# Altium integrated library HTLinn_Logic_CMOS.IntLib: 24 symbols
Pins are listed as number, name and electrical type; pins without a type are passive.

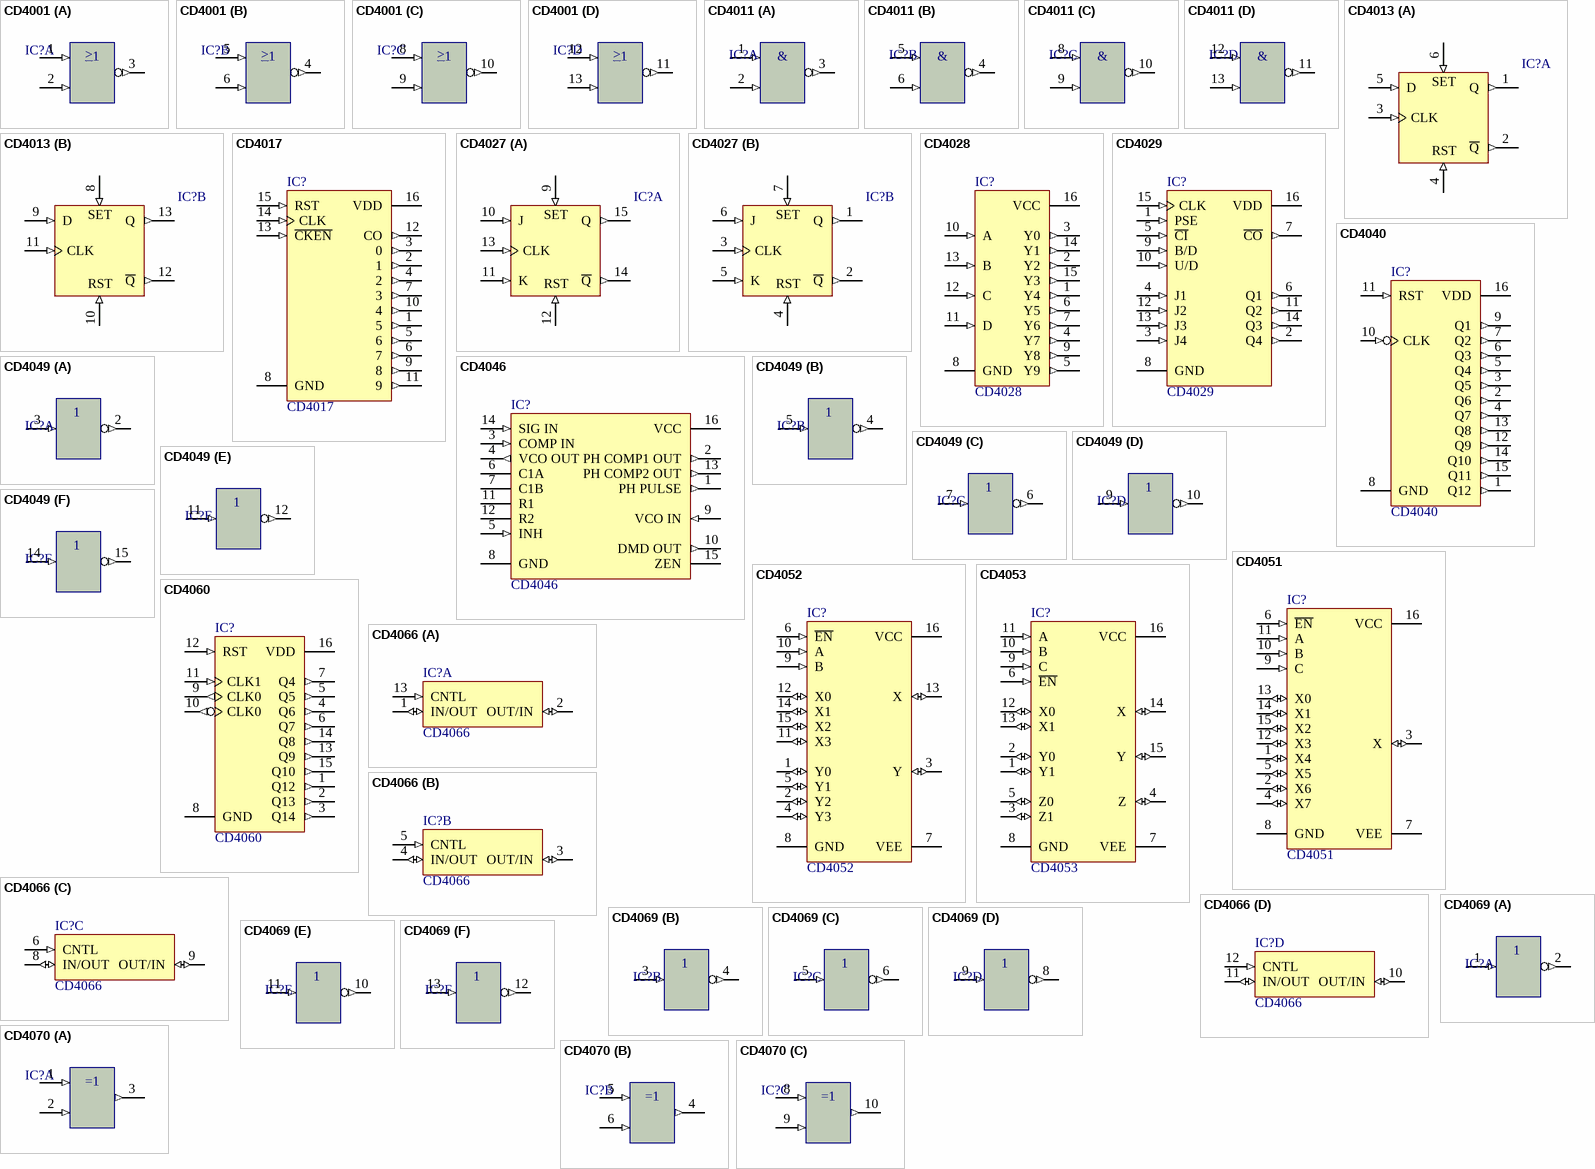
[diagram p0: symbols CD4001 to CD4070]

## CD4001
designator IC?  (value not drawn)
Quad 2-Input NOR Gate; Usage: only permitted for non-commercial purposes at HTL I Innsbruck; SimulationModellSource: ST Logic Gate; Published: 21-Feb-2011; LatestRevisionDate: 31-Oct-2012; Publisher: Michael Kupfner
simulation model CD4001 (SIMCODE)
footprint DIP14 (DIP; 14 Leads; Row Spacing 7.62 mm; Pitch 2.54 mm)
pins on every part: 7 GND (power) hidden to GND, 14 VDD (power) hidden to VDD
part A pins: 1 A (in), 2 B (in), 3 J (out)
part B pins: 4 K (out), 5 C (in), 6 D (in)
part C pins: 8 E (in), 9 F (in), 10 L (out)
part D pins: 11 M (out), 12 G (in), 13 H (in)
1 alternate drawing of the same symbol
part A text: >
part B text: >
part C text: >
part D text: >

## CD4011
designator IC?  (value not drawn)
Quad 2-Input NAND Gate; Usage: only permitted for non-commercial purposes at HTL I Innsbruck; SimulationModellSource: FSC Logic Gate; Published: 21-Feb-2011; LatestRevisionDate: 31-Oct-2012; Publisher: Michael Kupfner
footprint DIP14 (DIP; 14 Leads; Row Spacing 7.62 mm; Pitch 2.54 mm)
simulation model CD4011 (SIMCODE)
pins on every part: 7 GND (power) hidden to GND, 14 VDD (power) hidden to VDD
part A pins: 1 A (in), 2 B (in), 3 J (out)
part B pins: 4 K (out), 5 C (in), 6 D (in)
part C pins: 8 E (in), 9 F (in), 10 L (out)
part D pins: 11 M (out), 12 G (in), 13 H (in)
1 alternate drawing of the same symbol
part A text: &
part B text: &
part C text: &
part D text: &

## CD4013
designator IC?  (value not drawn)
Dual D-Type Flip-Flop; Usage: only permitted for non-commercial purposes at HTL I Innsbruck; SimulationModellSource: ST Logic Flip-Flop; Published: 21-Feb-2011; LatestRevisionDate: 31-Oct-2012
footprint DIP14 (DIP; 14 Leads; Row Spacing 7.62 mm; Pitch 2.54 mm)
simulation model CD4013 (SIMCODE)
pins on every part: 7 GND (power) hidden to GND, 14 VDD (power) hidden to VDD
part A pins: 1 Q (out), 2 ~{Q} (out), 3 CLK (in), 4 RST (in), 5 D (in), 6 S (in)
part B pins: 8 S (in), 9 D (in), 10 RST (in), 11 CLK (in), 12 ~{Q} (out), 13 Q (out)
part A text: SET
part B text: SET

## CD4017
designator IC?
Decade Counter with 10 Decoded Outputs; Usage: only permitted for non-commercial purposes at HTL I Innsbruck; SimulationModellSource: ST Logic Counter; Published: 21-Feb-2011; LatestRevisionDate: 31-Oct-2012
footprint DIP16 (DIP; 16 Leads; Row Spacing 7.62 mm; Pitch 2.54 mm)
simulation model CD4017 (SIMCODE)
pins: 1 5 (out), 2 1 (out), 3 0 (out), 4 2 (out), 5 6 (out), 6 7 (out), 7 3 (out), 8 GND (power), 9 8 (out), 10 4 (out), 11 9 (out), 12 CO (out), 13 ~{CKEN} (in), 14 CLK (in), 15 RST (in), 16 VDD (power)

## CD4027
designator IC?  (value not drawn)
Dual J-K Master-Slave Flip-Flop; SimulationModellSource: ST Logic Flip-Flop; Usage: only permitted for non-commercial purposes at HTL I Innsbruck; Published: 21-Feb-2011; LatestRevisionDate: 31-Oct-2012
footprint DIP16 (DIP; 16 Leads; Row Spacing 7.62 mm; Pitch 2.54 mm)
simulation model CD4027 (SIMCODE)
pins on every part: 8 GND (power) hidden to GND, 16 VDD (power) hidden to VDD
part A pins: 9 S (in), 10 J (in), 11 K (in), 12 RST (in), 13 CLK (in), 14 ~{Q} (out), 15 Q (out)
part B pins: 1 Q (out), 2 ~{Q} (out), 3 CLK (in), 4 RST (in), 5 K (in), 6 J (in), 7 S (in)
part A text: SET
part B text: SET

## CD4028
designator IC?
BCD-to-Decimal Decoder; Usage: only permitted for non-commercial purposes at HTL I Innsbruck; SimulationModellSource: ST Logic Decoder; Published: 21-Feb-2011; LatestRevisionDate: 31-Oct-2012
footprint DIP16 (DIP; 16 Leads; Row Spacing 7.62 mm; Pitch 2.54 mm)
simulation model CD4028 (SIMCODE)
pins: 1 Y4 (out), 2 Y2 (out), 3 Y0 (out), 4 Y7 (out), 5 Y9 (out), 6 Y5 (out), 7 Y6 (out), 8 GND (power), 9 Y8 (out), 10 A (in), 11 D (in), 12 C (in), 13 B (in), 14 Y1 (out), 15 Y3 (out), 16 VCC (power)

## CD4029
designator IC?
Presettable Up/Down Counter Binary or BCD Decade; SimulationModellSource: ST Logic Counter; Usage: only permitted for non-commercial purposes at HTL I Innsbruck; Published: 21-Feb-2011; LatestRevisionDate: 31-Oct-2012
footprint DIP16 (DIP; 16 Leads; Row Spacing 7.62 mm; Pitch 2.54 mm)
simulation model CD4029 (SIMCODE)
pins: 1 PSE (in), 2 Q4 (out), 3 J4 (in), 4 J1 (in), 5 ~{CI} (in), 6 Q1 (out), 7 ~{CO} (out), 8 GND (power), 9 B/D (in), 10 U/D (in), 11 Q2 (out), 12 J2 (in), 13 J3 (in), 14 Q3 (out), 15 CLK (in), 16 VDD (power)

## CD4040
designator IC?
12-Stage Ripple-Carry Binary Counter/Divider; Usage: only permitted for non-commercial purposes at HTL I Innsbruck; SimulationModellSource: ST Logic Counter; Published: 21-Feb-2011; LatestRevisionDate: 31-Oct-2012
footprint DIP16 (DIP; 16 Leads; Row Spacing 7.62 mm; Pitch 2.54 mm)
simulation model HCC4040 (SIMCODE)
pins: 1 Q12 (out), 2 Q6 (out), 3 Q5 (out), 4 Q7 (out), 5 Q4 (out), 6 Q3 (out), 7 Q2 (out), 8 GND (power), 9 Q1 (out), 10 CLK (in), 11 RST (in), 12 Q9 (out), 13 Q8 (out), 14 Q10 (out), 15 Q11 (out), 16 VDD (power)

## CD4046
designator IC?
CMOS Phase-Locked Loop; Usage: only permitted for non-commercial purposes at HTL I Innsbruck; SimulationModellSource: <no Sim-Modell found so far>; Published: 21-Feb-2011; LatestRevisionDate: 31-Oct-2012
footprint DIP16 (DIP; 16 Leads; Row Spacing 7.62 mm; Pitch 2.54 mm)
pins: 1 PH PULSE (out), 2 PH COMP1 OUT (out), 3 COMP IN (in), 4 VCO OUT (out), 5 INH (in), 6 C1A, 7 C1B, 8 GND (power), 9 VCO IN (in), 10 DMD OUT (out), 11 R1, 12 R2, 13 PH COMP2 OUT (out), 14 SIG IN (in), 15 ZEN, 16 VCC (power)

## CD4049
designator IC?  (value not drawn)
Hex Buffer/Converter; Usage: only permitted for non-commercial purposes at HTL I Innsbruck; SimulationModellSource: ST Logic Gate; Published: 21-Feb-2011; LatestRevisionDate: 31-Oct-2012; Publisher: Michael Kupfner
footprint DIP16 (DIP; 16 Leads; Row Spacing 7.62 mm; Pitch 2.54 mm)
simulation model CD4049 (SIMCODE)
pins on every part: 1 VCC (power) hidden to VCC, 8 GND (power) hidden to GND
part A pins: 2 G (out), 3 A (in)
part B pins: 4 H (out), 5 B (in)
part C pins: 6 I (out), 7 C (in)
part D pins: 9 D (in), 10 J (out)
part E pins: 11 E (in), 12 K (out)
part F pins: 14 F (in), 15 L (out)
1 alternate drawing of the same symbol

## CD4051
designator IC?
8-Channel Analog Multiplexer/Demultiplexer; Usage: only permitted for non-commercial purposes at HTL I Innsbruck; SimulationModellSource: <no Sim-Modell found so far>; Published: 21-Feb-2011; LatestRevisionDate: 31-Oct-2012
footprint DIP16 (DIP; 16 Leads; Row Spacing 7.62 mm; Pitch 2.54 mm)
pins: 1 X4 (io), 2 X6 (io), 3 X (io), 4 X7 (io), 5 X5 (io), 6 ~{EN} (in), 7 VEE (power), 8 GND (power), 9 C (in), 10 B (in), 11 A (in), 12 X3 (io), 13 X0 (io), 14 X1 (io), 15 X2 (io), 16 VCC (power)

## CD4052
designator IC?
Dual 4-Channel Analog Multiplexer/Demultiplexer; Usage: only permitted for non-commercial purposes at HTL I Innsbruck; SimulationModellSource: <no Sim-Modell found so far>; Published: 21-Feb-2011; LatestRevisionDate: 31-Oct-2012
footprint DIP16 (DIP; 16 Leads; Row Spacing 7.62 mm; Pitch 2.54 mm)
pins: 1 Y0 (io), 2 Y2 (io), 3 Y (io), 4 Y3 (io), 5 Y1 (io), 6 ~{EN} (in), 7 VEE (power), 8 GND (power), 9 B (in), 10 A (in), 11 X3 (io), 12 X0 (io), 13 X (io), 14 X1 (io), 15 X2 (io), 16 VCC (power)

## CD4053
designator IC?
Triple 2-Channnel Analog Multiplexer/Demutiplexer; Usage: only permitted for non-commercial purposes at HTL I Innsbruck; SimulationModellSource: <no Sim-Modell found so far>; Published: 21-Feb-2011; LatestRevisionDate: 31-Oct-2012
footprint DIP16 (DIP; 16 Leads; Row Spacing 7.62 mm; Pitch 2.54 mm)
pins: 1 Y1 (io), 2 Y0 (io), 3 Z1 (io), 4 Z (io), 5 Z0 (io), 6 ~{EN} (in), 7 VEE (power), 8 GND (power), 9 C (in), 10 B (in), 11 A (in), 12 X0 (io), 13 X1 (io), 14 X (io), 15 Y (io), 16 VCC (power)

## CD4060
designator IC?
14-Stage Ripple Carry Binary Counter/Divider and Oscillator; Usage: only permitted for non-commercial purposes at HTL I Innsbruck; SimulationModellSource: <no Sim-Modell found so far>; Published: 21-Feb-2011; LatestRevisionDate: 31-Oct-2012
footprint DIP16 (DIP; 16 Leads; Row Spacing 7.62 mm; Pitch 2.54 mm)
pins: 1 Q12 (out), 2 Q13 (out), 3 Q14 (out), 4 Q6 (out), 5 Q5 (out), 6 Q7 (out), 7 Q4 (out), 8 GND (power), 9 CLK0 (out), 10 CLK0 (out), 11 CLK1 (in), 12 RST (in), 13 Q9 (out), 14 Q8 (out), 15 Q10 (out), 16 VDD (power)

## CD4066
designator IC?
Quad Bilateral Switch; Usage: only permitted for non-commercial purposes at HTL I Innsbruck; SimulationModellSource: <no Sim-Modell found so far>; Published: 21-Feb-2011; LatestRevisionDate: 31-Oct-2012
footprint DIP14 (DIP; 14 Leads; Row Spacing 7.62 mm; Pitch 2.54 mm)
pins on every part: 7 GND (power) hidden to GND, 14 VDD (power) hidden to VDD
part A pins: 1 IN/OUT (io), 2 OUT/IN (io), 13 CNTL (in)
part B pins: 3 OUT/IN (io), 4 IN/OUT (io), 5 CNTL (in)
part C pins: 6 CNTL (in), 8 IN/OUT (io), 9 OUT/IN (io)
part D pins: 10 OUT/IN (io), 11 IN/OUT (io), 12 CNTL (in)

## CD4069
designator IC?  (value not drawn)
Hex Inverter; Usage: only permitted for non-commercial purposes at HTL I Innsbruck; SimulationModellSource: ST Logic Gate; Published: 21-Feb-2011; LatestRevisionDate: 31-Oct-2012; Publisher: Michael Kupfner
simulation model CD4069 (SIMCODE)
footprint DIP14 (DIP; 14 Leads; Row Spacing 7.62 mm; Pitch 2.54 mm)
pins on every part: 7 GND (power) hidden to GND, 14 VDD (power) hidden to VDD
part A pins: 1 A (in), 2 G (out)
part B pins: 3 B (in), 4 H (out)
part C pins: 5 C (in), 6 I (out)
part D pins: 8 J (out), 9 D (in)
part E pins: 10 K (out), 11 E (in)
part F pins: 12 L (out), 13 F (in)
1 alternate drawing of the same symbol

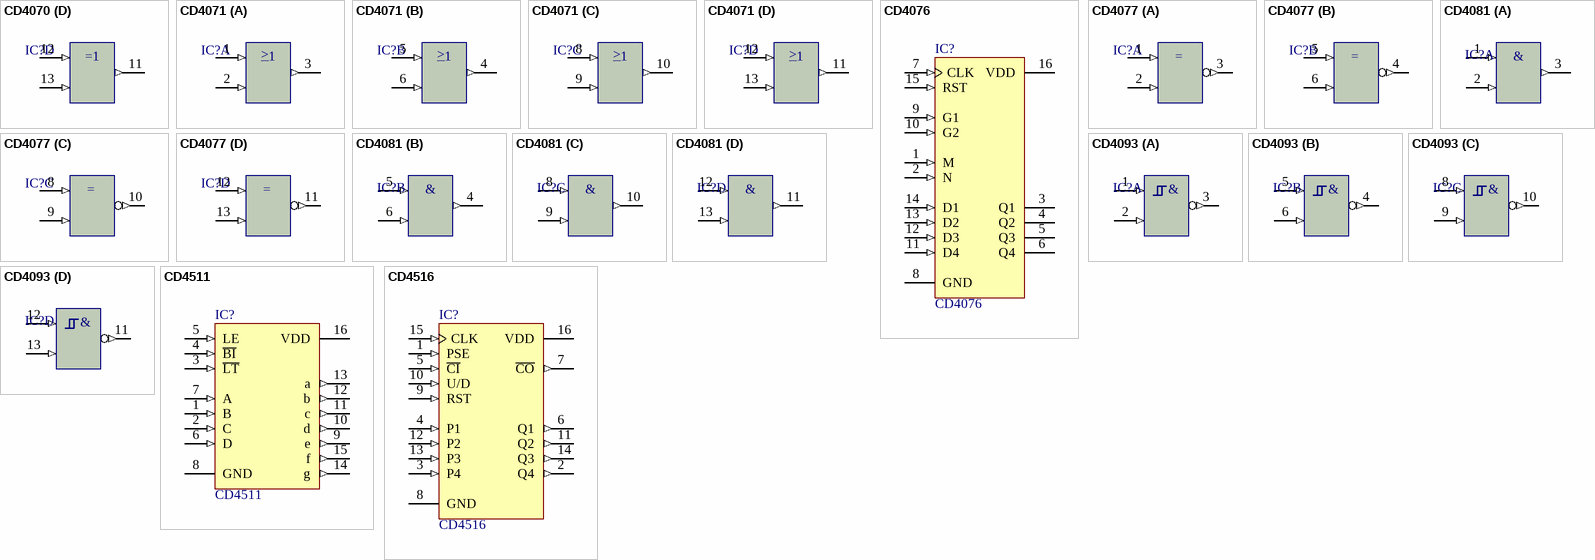
[diagram p1: symbols CD4070 to CD4516]

## CD4070
designator IC?  (value not drawn)
Quad Exclusive OR Gate; Usage: only permitted for non-commercial purposes at HTL I Innsbruck; SimulationModellSource: ST Logic Gate; Published: 21-Feb-2011; LatestRevisionDate: 31-Oct-2012; Publisher: Michael Kupfner
footprint DIP14 (DIP; 14 Leads; Row Spacing 7.62 mm; Pitch 2.54 mm)
simulation model CD4070 (SIMCODE)
pins on every part: 7 GND (power) hidden to GND, 14 VDD (power) hidden to VDD
part A pins: 1 B (in), 2 A (in), 3 J (out)
part B pins: 4 K (out), 5 C (in), 6 D (in)
part C pins: 8 E (in), 9 F (in), 10 L (out)
part D pins: 11 M (out), 12 G (in), 13 H (in)
1 alternate drawing of the same symbol

## CD4071
designator IC?  (value not drawn)
Quad 2-Input OR Gate; Usage: only permitted for non-commercial purposes at HTL I Innsbruck; SimulationModellSource: ST Logic Gate; Published: 21-Feb-2011; LatestRevisionDate: 31-Oct-2012; Publisher: Michael Kupfner
footprint DIP14 (DIP; 14 Leads; Row Spacing 7.62 mm; Pitch 2.54 mm)
simulation model CD4071 (SIMCODE)
pins on every part: 7 GND (power) hidden to GND, 14 VDD (power) hidden to VDD
part A pins: 1 B (in), 2 A (in), 3 J (out)
part B pins: 4 K (out), 5 D (in), 6 C (in)
part C pins: 8 F (in), 9 E (in), 10 L (out)
part D pins: 11 M (out), 12 H (in), 13 G (in)
1 alternate drawing of the same symbol
part A text: >
part B text: >
part C text: >
part D text: >

## CD4076
designator IC?
4-Bit D-Type Register; Usage: only permitted for non-commercial purposes at HTL I Innsbruck; SimulationModellSource: ST Logic Flip-Flop; Published: 21-Feb-2011; LatestRevisionDate: 31-Oct-2012
footprint DIP16 (DIP; 16 Leads; Row Spacing 7.62 mm; Pitch 2.54 mm)
simulation model CD4076 (SIMCODE)
pins: 1 M (in), 2 N (in), 3 Q1 (hiz), 4 Q2 (hiz), 5 Q3 (hiz), 6 Q4 (hiz), 7 CLK (in), 8 GND (power), 9 G1 (in), 10 G2 (in), 11 D4 (in), 12 D3 (in), 13 D2 (in), 14 D1 (in), 15 RST (in), 16 VDD (power)

## CD4077
designator IC?  (value not drawn)
Quad Exclusive NOR Gate; Usage: only permitted for non-commercial purposes at HTL I Innsbruck; SimulationModellSource: ST Logic Gate; Published: 21-Feb-2011; LatestRevisionDate: 31-Oct-2012; Publisher: Michael Kupfner
footprint DIP14 (DIP; 14 Leads; Row Spacing 7.62 mm; Pitch 2.54 mm)
simulation model CD4077 (SIMCODE)
pins on every part: 7 GND (power) hidden to GND, 14 VCC (power) hidden to VCC
part A pins: 1 A (in), 2 B (in), 3 J (out)
part B pins: 4 K (out), 5 C (in), 6 D (in)
part C pins: 8 E (in), 9 F (in), 10 L (out)
part D pins: 11 M (out), 12 G (in), 13 H (in)
1 alternate drawing of the same symbol

## CD4081
designator IC?  (value not drawn)
Quad 2-Input AND Gate; Usage: only permitted for non-commercial purposes at HTL I Innsbruck; SimulationModellSource: ST Logic Gate; Published: 21-Feb-2011; LatestRevisionDate: 31-Oct-2012; Publisher: Michael Kupfner
footprint DIP14 (DIP; 14 Leads; Row Spacing 7.62 mm; Pitch 2.54 mm)
simulation model CD4081 (SIMCODE)
pins on every part: 7 GND (power) hidden to GND, 14 VDD (power) hidden to VDD
part A pins: 1 A (in), 2 B (in), 3 J (out)
part B pins: 4 K (out), 5 C (in), 6 D (in)
part C pins: 8 E (in), 9 F (in), 10 L (out)
part D pins: 11 M (out), 12 G (in), 13 H (in)
1 alternate drawing of the same symbol
part A text: &
part B text: &
part C text: &
part D text: &

## CD4093
designator IC?  (value not drawn)
Quad 2-Input NAND Schmitt Trigger; Usage: only permitted for non-commercial purposes at HTL I Innsbruck; SimulationModellSource: FSC Logic Gate; Published: 21-Feb-2011; LatestRevisionDate: 31-Oct-2012; Publisher: Michael Kupfner
footprint DIP14 (DIP; 14 Leads; Row Spacing 7.62 mm; Pitch 2.54 mm)
simulation model CD4093 (SIMCODE)
pins on every part: 7 GND (power) hidden to GND, 14 VCC (power) hidden to VCC
part A pins: 1 A (in), 2 B (in), 3 J (out)
part B pins: 4 K (out), 5 C (in), 6 D (in)
part C pins: 8 E (in), 9 F (in), 10 L (out)
part D pins: 11 M (out), 12 G (in), 13 H (in)
1 alternate drawing of the same symbol
part A text: &
part B text: &
part C text: &
part D text: &

## CD4511
designator IC?
BCD-to-7 Segment Latch/Decoder/Driver; Usage: only permitted for non-commercial purposes at HTL I Innsbruck; SimulationModellSource: FSC Interface Display Driver; Published: 21-Feb-2011; LatestRevisionDate: 31-Oct-2012
footprint DIP16 (DIP; 16 Leads; Row Spacing 7.62 mm; Pitch 2.54 mm)
simulation model CD4511 (SIMCODE)
pins: 1 B (in), 2 C (in), 3 ~{LT} (in), 4 ~{BI} (in), 5 LE (in), 6 D (in), 7 A (in), 8 GND (power), 9 e (out), 10 d (out), 11 c (out), 12 b (out), 13 a (out), 14 g (out), 15 f (out), 16 VDD (power)

## CD4516
designator IC?
Presettable Up/Down Counter; Usage: only permitted for non-commercial purposes at HTL I Innsbruck; SimulationModellSource: ST Logic Counter; Published: 21-Feb-2011; LatestRevisionDate: 31-Oct-2012
footprint DIP16 (DIP; 16 Leads; Row Spacing 7.62 mm; Pitch 2.54 mm)
simulation model CD4516 (SIMCODE)
pins: 1 PSE (in), 2 Q4 (out), 3 P4 (in), 4 P1 (in), 5 ~{CI} (in), 6 Q1 (out), 7 ~{CO} (out), 8 GND (power), 9 RST (in), 10 U/D (in), 11 Q2 (out), 12 P2 (in), 13 P3 (in), 14 Q3 (out), 15 CLK (in), 16 VDD (power)